# Altium integrated library WE_WR-BHD_IDC & Transition Connector_2.54 mm_rev15a.IntLib: 10 symbols
Pins are listed as number, name and electrical type; pins without a type are passive.

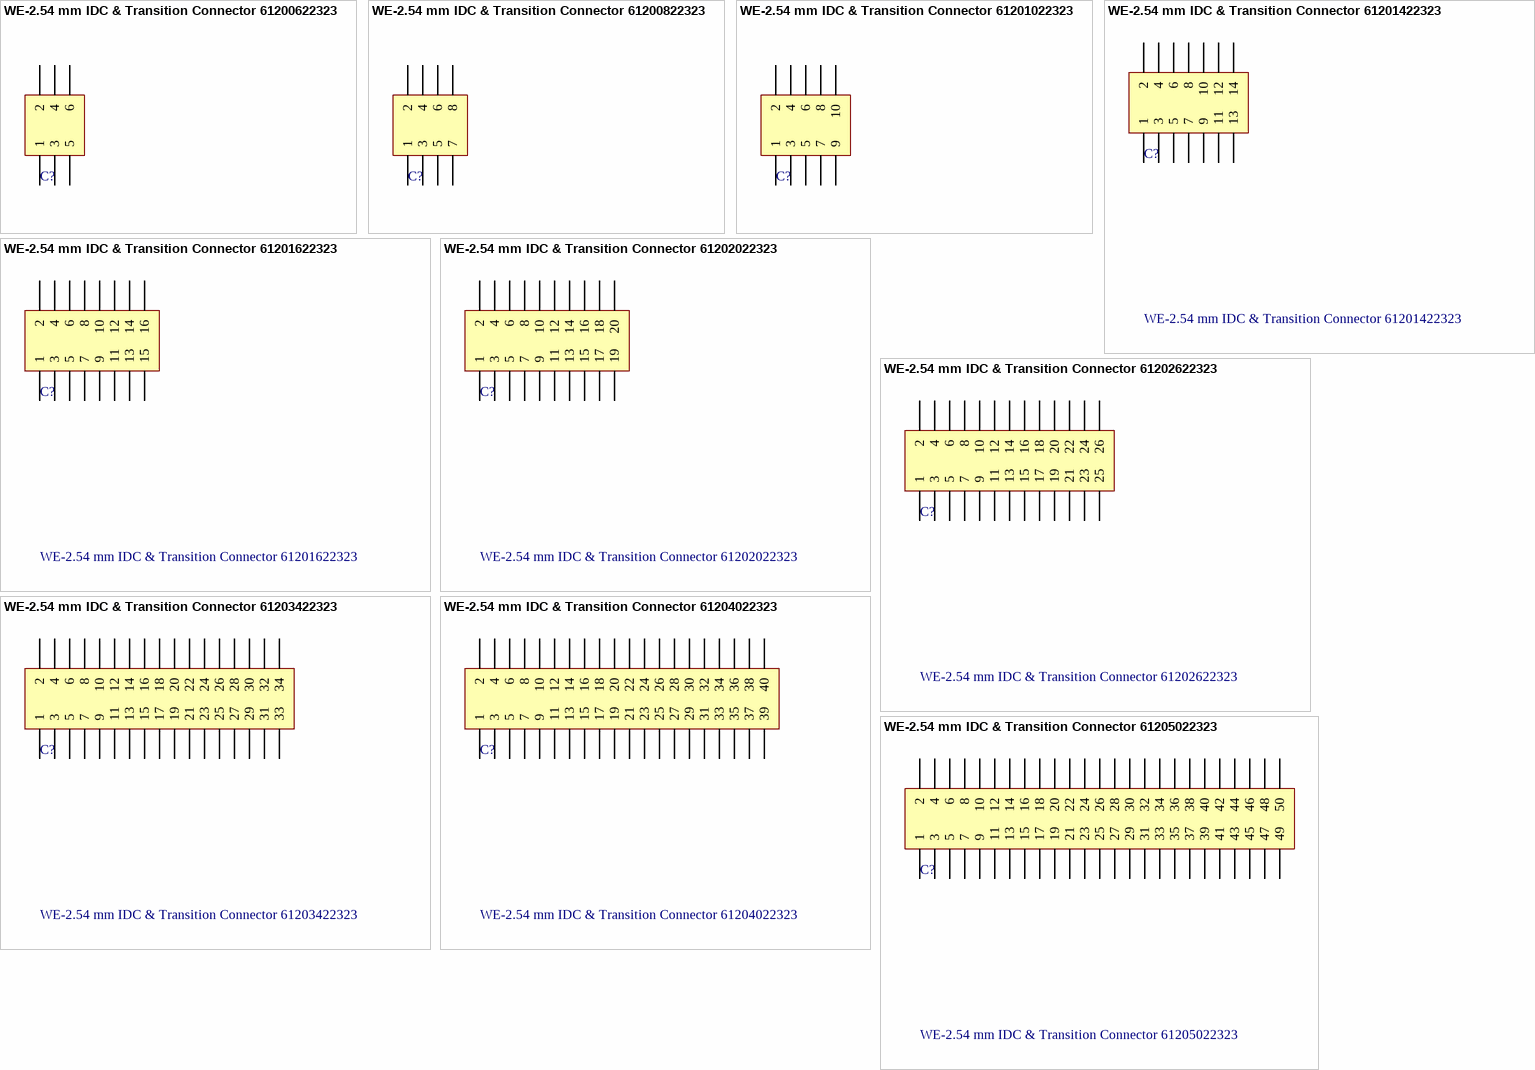
[diagram p0: symbols WE-2.54 mm IDC & Transition Connector 61200622323 to WE-2.54 mm IDC & Transition Connector 61205022323]

## WE-2.54 mm IDC & Transition Connector 61200622323
designator C?
WR-BHD 2.54mm Board To Cable Transition Connector; Manufacturer: Würth Elektronik eiSos GmbH; ComponentLink1 Description: Manufacturer; ComponentLink2 Description: Datasheet; NoPins: 6; Created Date: 10 May 2013; partNo: 61200622323; ComponentLink1URL: http://www.we-online.com; ComponentLink2URL: http://katalog.we-online.de/em/datasheet/6120xx22323.pdf; Created by: Karrer Zheng
footprint 61200622323 (6 pins, selective gold plating)
pins: 1, 2, 3, 4, 5, 6

## WE-2.54 mm IDC & Transition Connector 61200822323
designator C?
WR-BHD 2.54mm Board To Cable Transition Connector; Manufacturer: Würth Elektronik eiSos GmbH; ComponentLink1 Description: Manufacturer; ComponentLink2 Description: Datasheet; NoPins: 8; Created Date: 10 May 2013; partNo: 61200822323; ComponentLink1URL: http://www.we-online.com; ComponentLink2URL: http://katalog.we-online.de/em/datasheet/6120xx22323.pdf; Created by: Karrer Zheng
footprint 61200822323 (8 pins, selective gold plating)
pins: 1, 2, 3, 4, 5, 6, 7, 8

## WE-2.54 mm IDC & Transition Connector 61201022323
designator C?
WR-BHD 2.54mm Board To Cable Transition Connector; Manufacturer: Würth Elektronik eiSos GmbH; ComponentLink1 Description: Manufacturer; ComponentLink2 Description: Datasheet; NoPins: 10; Created Date: 10 May 2013; partNo: 61201022323; ComponentLink1URL: http://www.we-online.com; ComponentLink2URL: http://katalog.we-online.de/em/datasheet/6120xx22323.pdf; Created by: Karrer Zheng
footprint 61201022323 (10 pins, selective gold plating)
pins: 1, 2, 3, 4, 5, 6, 7, 8, 9, 10

## WE-2.54 mm IDC & Transition Connector 61201422323
designator C?
WR-BHD 2.54mm Board To Cable Transition Connector; Manufacturer: Würth Elektronik eiSos GmbH; ComponentLink1 Description: Manufacturer; ComponentLink2 Description: Datasheet; NoPins: 14; Created Date: 10 May 2013; partNo: 61201422323; ComponentLink1URL: http://www.we-online.com; ComponentLink2URL: http://katalog.we-online.de/em/datasheet/6120xx22323.pdf; Created by: Karrer Zheng
footprint 61201422323 (14 pins, selective gold plating)
pins: 1, 2, 3, 4, 5, 6, 7, 8, 9, 10, 11, 12, 13, 14

## WE-2.54 mm IDC & Transition Connector 61201622323
designator C?
WR-BHD 2.54mm Board To Cable Transition Connector; Manufacturer: Würth Elektronik eiSos GmbH; ComponentLink1 Description: Manufacturer; ComponentLink2 Description: Datasheet; NoPins: 16; Created Date: 10 May 2013; partNo: 61201622323; ComponentLink1URL: http://www.we-online.com; ComponentLink2URL: http://katalog.we-online.de/em/datasheet/6120xx22323.pdf; Created by: Karrer Zheng
footprint 61201622323 (16 pins, selective gold plating)
pins: 1, 2, 3, 4, 5, 6, 7, 8, 9, 10, 11, 12, 13, 14, 15, 16

## WE-2.54 mm IDC & Transition Connector 61202022323
designator C?
WR-BHD 2.54mm Board To Cable Transition Connector; Manufacturer: Würth Elektronik eiSos GmbH; ComponentLink1 Description: Manufacturer; ComponentLink2 Description: Datasheet; NoPins: 20; Created Date: 10 May 2013; partNo: 61202022323; ComponentLink1URL: http://www.we-online.com; ComponentLink2URL: http://katalog.we-online.de/em/datasheet/6120xx22323.pdf; Created by: Karrer Zheng
footprint 61202022323 (20 pins, selective gold plating)
pins: 1, 2, 3, 4, 5, 6, 7, 8, 9, 10, 11, 12, 13, 14, 15, 16, 17, 18, 19, 20

## WE-2.54 mm IDC & Transition Connector 61202622323
designator C?
WR-BHD 2.54mm Board To Cable Transition Connector; Manufacturer: Würth Elektronik eiSos GmbH; ComponentLink1 Description: Manufacturer; ComponentLink2 Description: Datasheet; NoPins: 26; Created Date: 10 May 2013; partNo: 61202622323; ComponentLink1URL: http://www.we-online.com; ComponentLink2URL: http://katalog.we-online.de/em/datasheet/6120xx22323.pdf; Created by: Karrer Zheng
footprint 61202622323 (26 pins, selective gold plating)
pins: 1, 2, 3, 4, 5, 6, 7, 8, 9, 10, 11, 12, 13, 14, 15, 16, 17, 18, 19, 20, 21, 22, 23, 24, 25, 26

## WE-2.54 mm IDC & Transition Connector 61203422323
designator C?
WR-BHD 2.54mm Board To Cable Transition Connector; Manufacturer: Würth Elektronik eiSos GmbH; ComponentLink1 Description: Manufacturer; ComponentLink2 Description: Datasheet; NoPins: 34; Created Date: 10 May 2013; partNo: 61203422323; ComponentLink1URL: http://www.we-online.com; ComponentLink2URL: http://katalog.we-online.de/em/datasheet/6120xx22323.pdf; Created by: Karrer Zheng
footprint 61203422323 (34 pins, selective gold plating)
pins: 1, 2, 3, 4, 5, 6, 7, 8, 9, 10, 11, 12, 13, 14, 15, 16, 17, 18, 19, 20, 21, 22, 23, 24, 25, 26, 27, 28, 29, 30, 31, 32, 33, 34

## WE-2.54 mm IDC & Transition Connector 61204022323
designator C?
WR-BHD 2.54mm Board To Cable Transition Connector; Manufacturer: Würth Elektronik eiSos GmbH; ComponentLink1 Description: Manufacturer; ComponentLink2 Description: Datasheet; NoPins: 40; Created Date: 10 May 2013; partNo: 61204022323; ComponentLink1URL: http://www.we-online.com; ComponentLink2URL: http://katalog.we-online.de/em/datasheet/6120xx22323.pdf; Created by: Karrer Zheng
footprint 61204022323 (40 pins, selective gold plating)
pins: 1, 2, 3, 4, 5, 6, 7, 8, 9, 10, 11, 12, 13, 14, 15, 16, 17, 18, 19, 20, 21, 22, 23, 24, 25, 26, 27, 28, 29, 30, 31, 32, 33, 34, 35, 36, 37, 38, 39, 40

## WE-2.54 mm IDC & Transition Connector 61205022323
designator C?
WR-BHD 2.54mm Board To Cable Transition Connector; Manufacturer: Würth Elektronik eiSos GmbH; ComponentLink1 Description: Manufacturer; ComponentLink2 Description: Datasheet; NoPins: 50; Created Date: 10 May 2013; partNo: 61205022323; ComponentLink1URL: http://www.we-online.com; ComponentLink2URL: http://katalog.we-online.de/em/datasheet/6120xx22323.pdf; Created by: Karrer Zheng
footprint 61205022323 (50 pins, selective gold plating)
pins: 1, 2, 3, 4, 5, 6, 7, 8, 9, 10, 11, 12, 13, 14, 15, 16, 17, 18, 19, 20, 21, 22, 23, 24, 25, 26, 27, 28, 29, 30, 31, 32, 33, 34, 35, 36, 37, 38, 39, 40, 41, 42, 43, 44, 45, 46, 47, 48, 49, 50